# Altium footprint library TE_2336582-1.PcbLib: 1 footprints
Each footprint in its own frame and in the unit in brackets; x right, y up, seen from the top. Pads: shape width x height; smd on the part's side, far side on the other; paste and mask are expansions set on the pad; w line width, h text height; cw(c..) or ccw(c..) is an arc to the next point about the centre after c.
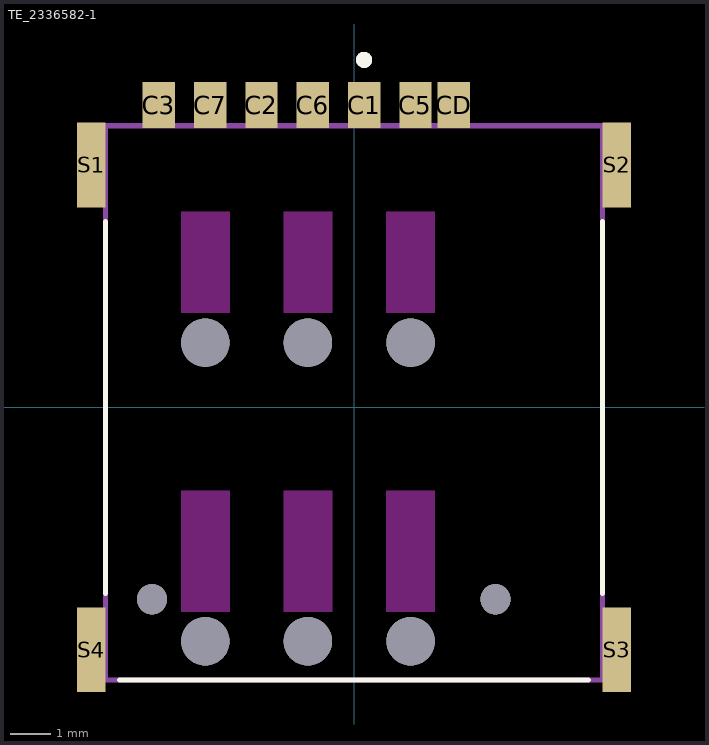
[diagram p0: the footprint, top view; thin cyan lines are the x and y axes]

## TE_2336582-1 [mm]
height 1.37
pads (19):
  rect 0.8x1.14 smd: C1(0.25,7.48) C2(-2.29,7.48) C3(-4.83,7.48) C5(1.52,7.48) C6(-1.02,7.48) C7(-3.56,7.48) CD(2.47,7.48)
  rect 0.7x2.1 smd: S1(-6.5,6) S2(6.5,6) S3(6.5,-6) S4(-6.5,-6)
  round 0.75 hole 0.75 unplated: ""(-5,-4.75) ""(3.5,-4.75)
  round 1.2 hole 1.2 unplated: ""(-3.68,-5.79) ""(-3.68,1.6) ""(-1.14,-5.79) ""(-1.14,1.6) ""(1.4,-5.79) ""(1.4,1.6)
Top Overlay:
  circle w0.2: c0.25,8.6 r0.1
  lines w0.127: -6.15,-4.6 -6.15,4.6 ; -5.8,-6.75 5.8,-6.75 ; 6.15,-4.6 6.15,4.6
Keep-Out Layer:
  region: 2,-5.06 0.8,-5.06 0.8,-2.06 2,-2.06
  region: -0.54,-5.06 -1.74,-5.06 -1.74,-2.06 -0.54,-2.06
  region: -3.08,-5.06 -4.28,-5.06 -4.28,-2.06 -3.08,-2.06
  region: 2,2.34 0.8,2.34 0.8,4.84 2,4.84
  region: -0.54,2.34 -1.74,2.34 -1.74,4.84 -0.54,4.84
  region: -3.08,2.34 -4.28,2.34 -4.28,4.84 -3.08,4.84
Assembly Top:
  circle w0.2: c0.25,8.6 r0.1
  lines w0.127: -6.15,-6.75 6.15,-6.75 6.15,6.97 -6.15,6.97 -6.15,-6.75
3D body "step_temp.STEP": height 1.38, standoff -0.39, extent -6.486,-7.036 6.604,7.544